# Altium schematic symbol library NCV4274ADT33RKG.SchLib: 2 symbols
Pins are listed as number, name and electrical type; pins without a type are passive.

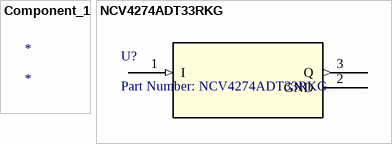
[diagram p0: symbols Component_1 to NCV4274ADT33RKG]

## Component_1
designator *

## NCV4274ADT33RKG
designator U?, comment Part Number: NCV4274ADT33RKG
No Description Available; Vendor: ON Semiconductor; Manufacturer_Part_Number: NCV4274ADT33RKG; Copyright: Copyright (C) 2016 Accelerated Designs. All rights reserved; RefDes: RefDes; Type: DEV; Value: Value
footprint DPAK-3
pins: 1 I (in), 2 GND (power), 3 Q (out)